# EAGLE library part CH7053A (library CHIP_HDMI)
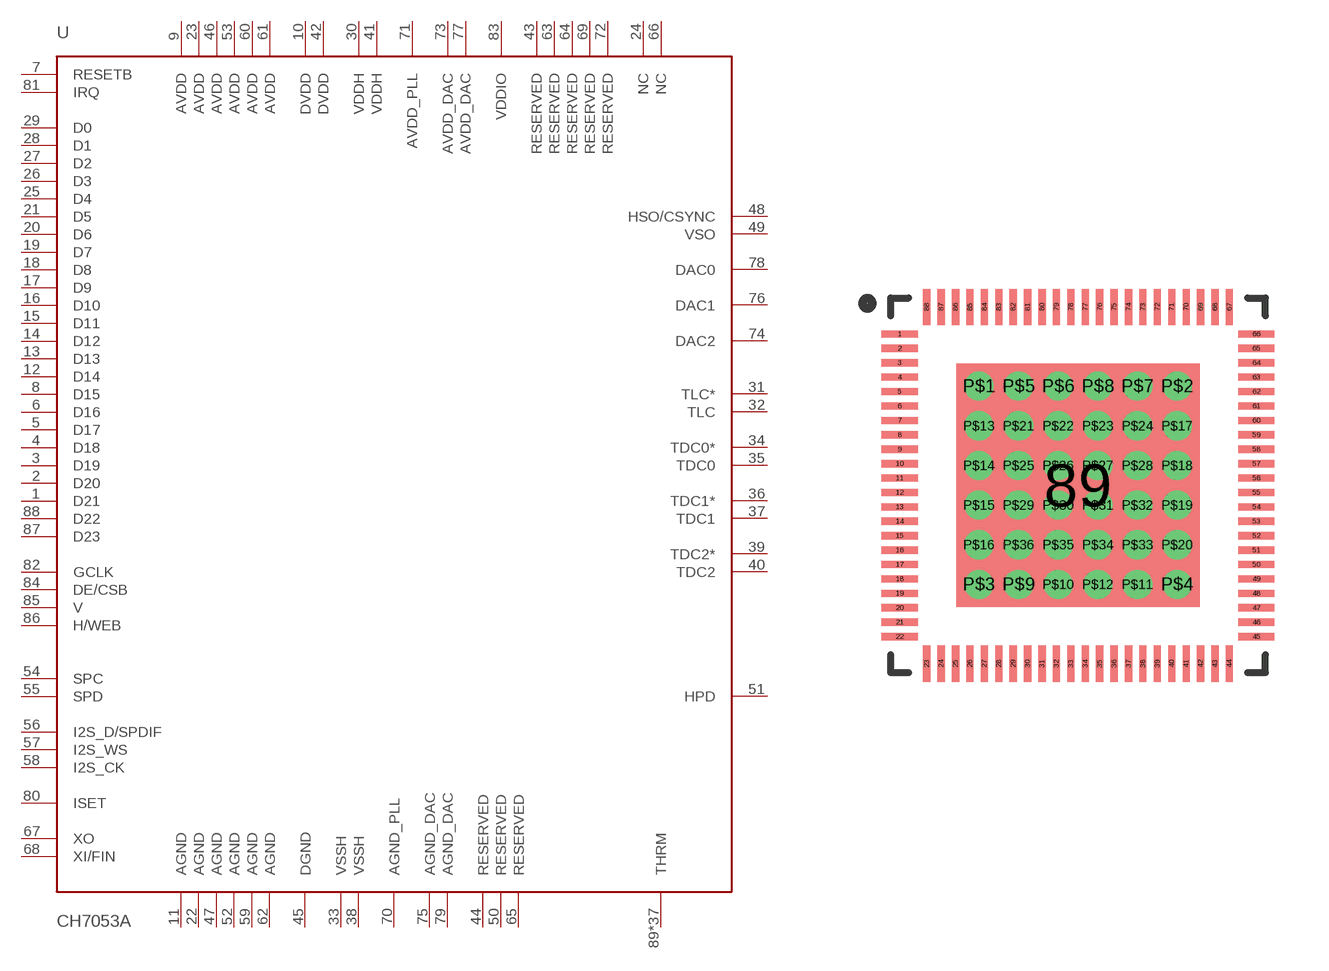
[diagram p0: symbol with the pads of QFN40P1000X1000X90_HS-89M; footprint QFN40P1000X1000X90_HS-89M]

Designator prefix U

## CH7053A  [QFN40P1000X1000X90_HS-89M]
1  D21
2  D20
3  D19
4  D18
5  D17
6  D16
7  RESETB
8  D15
9  AVDD  pwr
10  DVDD  pwr
11  AGND  pwr
12  D14
13  D13
14  D12
15  D11
16  D10
17  D9
18  D8
19  D7
20  D6
21  D5
22  AGND  pwr
23  AVDD  pwr
24  NC
25  D4
26  D3
27  D2
28  D1
29  D0
30  VDDH  pwr
31  TLC*
32  TLC
33  VSSH
34  TDC0*
35  TDC0
36  TDC1*
37  TDC1
38  VSSH
39  TDC2*
40  TDC2
41  VDDH
42  DVDD  pwr
43  RESERVED
44  RESERVED  pwr
45  DGND  pwr
46  AVDD  pwr
47  AGND  pwr
48  HSO/CSYNC
49  VSO
50  RESERVED
51  HPD
52  AGND  pwr
53  AVDD  pwr
54  SPC
55  SPD
56  I2S_D/SPDIF
57  I2S_WS
58  I2S_CK
59  AGND  pwr
60  AVDD  pwr
61  AVDD  pwr
62  AGND  pwr
63  RESERVED
64  RESERVED
65  RESERVED
66  NC
67  XO
68  XI/FIN
69  RESERVED
70  AGND_PLL  pwr
71  AVDD_PLL  pwr
72  RESERVED
73  AVDD_DAC
74  DAC2
75  AGND_DAC  pwr
76  DAC1
77  AVDD_DAC  pwr
78  DAC0
79  AGND_DAC
80  ISET
81  IRQ
82  GCLK
83  VDDIO
84  DE/CSB
85  V
86  H/WEB
87  D23
88  D22
89  THRM
P$1  THRM
P$2  THRM
P$3  THRM
P$4  THRM
P$5  THRM
P$6  THRM
P$7  THRM
P$8  THRM
P$9  THRM
P$10  THRM
P$11  THRM
P$12  THRM
P$13  THRM
P$14  THRM
P$15  THRM
P$16  THRM
P$17  THRM
P$18  THRM
P$19  THRM
P$20  THRM
P$21  THRM
P$22  THRM
P$23  THRM
P$24  THRM
P$25  THRM
P$26  THRM
P$27  THRM
P$28  THRM
P$29  THRM
P$30  THRM
P$31  THRM
P$32  THRM
P$33  THRM
P$34  THRM
P$35  THRM
P$36  THRM

## Footprint QFN40P1000X1000X90_HS-89M (pad centres in mm)
QFN, 88-Leads, Body 10.00x10.00mm, Pitch 0.40mm, Thermal Pad 6.75x6.75mm, IPC Low Density
smd 1 x 0.2: 1 -4.95,4.2; 2 -4.95,3.8; 3 -4.95,3.4; 4 -4.95,3; 5 -4.95,2.6; 6 -4.95,2.2; 7 -4.95,1.8; 8 -4.95,1.4; 9 -4.95,1; 10 -4.95,0.6; 11 -4.95,0.2; 12 -4.95,-0.2; 13 -4.95,-0.6; 14 -4.95,-1; 15 -4.95,-1.4; 16 -4.95,-1.8; 17 -4.95,-2.2; 18 -4.95,-2.6; 19 -4.95,-3; 20 -4.95,-3.4; 21 -4.95,-3.8; 22 -4.95,-4.2; 45 4.95,-4.2; 46 4.95,-3.8; 47 4.95,-3.4; 48 4.95,-3; 49 4.95,-2.6; 50 4.95,-2.2; 51 4.95,-1.8; 52 4.95,-1.4; 53 4.95,-1; 54 4.95,-0.6; 55 4.95,-0.2; 56 4.95,0.2; 57 4.95,0.6; 58 4.95,1; 59 4.95,1.4; 60 4.95,1.8; 61 4.95,2.2; 62 4.95,2.6; 63 4.95,3; 64 4.95,3.4; 65 4.95,3.8; 66 4.95,4.2
smd 0.2 x 1: 23 -4.2,-4.95; 24 -3.8,-4.95; 25 -3.4,-4.95; 26 -3,-4.95; 27 -2.6,-4.95; 28 -2.2,-4.95; 29 -1.8,-4.95; 30 -1.4,-4.95; 31 -1,-4.95; 32 -0.6,-4.95; 33 -0.2,-4.95; 34 0.2,-4.95; 35 0.6,-4.95; 36 1,-4.95; 37 1.4,-4.95; 38 1.8,-4.95; 39 2.2,-4.95; 40 2.6,-4.95; 41 3,-4.95; 42 3.4,-4.95; 43 3.8,-4.95; 44 4.2,-4.95; 67 4.2,4.95; 68 3.8,4.95; 69 3.4,4.95; 70 3,4.95; 71 2.6,4.95; 72 2.2,4.95; 73 1.8,4.95; 74 1.4,4.95; 75 1,4.95; 76 0.6,4.95; 77 0.2,4.95; 78 -0.2,4.95; 79 -0.6,4.95; 80 -1,4.95; 81 -1.4,4.95; 82 -1.8,4.95; 83 -2.2,4.95; 84 -2.6,4.95; 85 -3,4.95; 86 -3.4,4.95; 87 -3.8,4.95; 88 -4.2,4.95
smd 6.75 x 6.75: 89 0,0
drill 0.3 pad 0.61: P$1 -2.75,2.75; P$2 2.75,2.75; P$3 -2.75,-2.75; P$4 2.75,-2.75; P$5 -1.65,2.75; P$6 -0.55,2.75; P$7 1.65,2.75; P$8 0.55,2.75; P$9 -1.65,-2.75; P$10 -0.55,-2.75; P$11 1.65,-2.75; P$12 0.55,-2.75; P$13 -2.75,1.65; P$14 -2.75,0.55; P$15 -2.75,-0.55; P$16 -2.75,-1.65; P$17 2.75,1.65; P$18 2.75,0.55; P$19 2.75,-0.55; P$20 2.75,-1.65; P$21 -1.65,1.65; P$22 -0.55,1.65; P$23 0.55,1.65; P$24 1.65,1.65; P$25 -1.65,0.55; P$26 -0.55,0.55; P$27 0.55,0.55; P$28 1.65,0.55; P$29 -1.65,-0.55; P$30 -0.55,-0.55; P$31 0.55,-0.55; P$32 1.65,-0.55; P$33 1.65,-1.65; P$34 0.55,-1.65; P$35 -0.55,-1.65; P$36 -1.65,-1.65